# EAGLE library part TJA1057 (library lichtenstein_onion)
TJA1057 – High-speed CAN transceiver Information <https://www.nxp.com/products/analog/interfaces/in-vehicle-network/can-transceiver-and-controllers/high-speed-can-transceiver-mantis-family:TJA1057> Datasheet <https://www.nxp.com/docs/en/data-sheet/TJA1057.pdf>
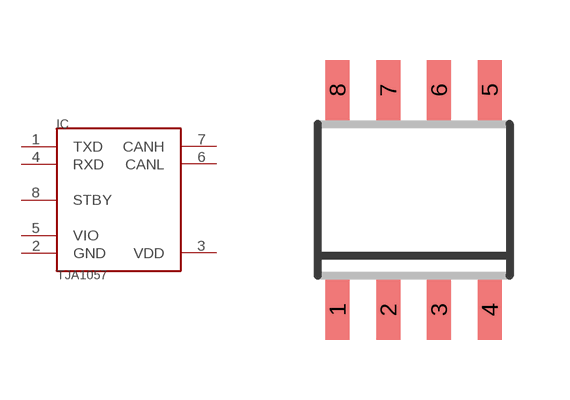
[diagram p19: symbol with the pads of SOIC8; footprint SOIC8]

Designator prefix IC

## TJA1057 (MOUSER: 771-TJA1057GT/3J)  [SOIC8]
1  TXD
2  GND
3  VDD
4  RXD
5  VIO
6  CANL
7  CANH
8  STBY

## Footprint SOIC8 (pad centres in mm)
SOIC-8 CASE 751-07 Source: http://www.onsemi.com/pub/Collateral/MC34164-D.PDF D (R-PDSO-G8)PLATIC SMALL-OUTLINE PACKAGE Source: http://focus.ti.com/lit/ds/symlink/tlc27l2.pdf
smd 0.6 x 1.5: 1 -1.905,-2.75; 2 -0.635,-2.75; 3 0.635,-2.75; 4 1.905,-2.75; 5 1.905,2.75; 6 0.635,2.75; 7 -0.635,2.75; 8 -1.905,2.75